# EAGLE library part SCN-2-35-1 (library mr_radar)
Power Splitter/Combiner SCN-2-35+ mini-circuits SCN-2-35
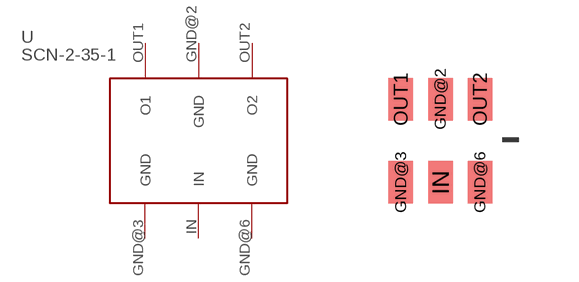
[diagram p6: symbol with the pads of SCN-2-35-1; footprint SCN-2-35-1]

Designator prefix -

## SCN-2-35-1  [SCN-2-35-1]
GND@2  GND
GND@3  GND
GND@6  GND
IN  IN
OUT1  O1
OUT2  O2

## Footprint SCN-2-35-1 (pad centres in mm)
smd 0.61 x 1.067: GND@2 0,1.041; GND@3 -0.991,-1.041; GND@6 0.991,-1.041; IN 0,-1.041; OUT1 -0.991,1.041; OUT2 0.991,1.041